# Altium footprint library 3.2inch_QD3222_18P_0.8mm.PcbLib: 1 footprints
Each footprint in its own frame and in the unit in brackets; x right, y up, seen from the top. Pads: shape width x height; smd on the part's side, far side on the other; paste and mask are expansions set on the pad; w line width, h text height; cw(c..) or ccw(c..) is an arc to the next point about the centre after c.
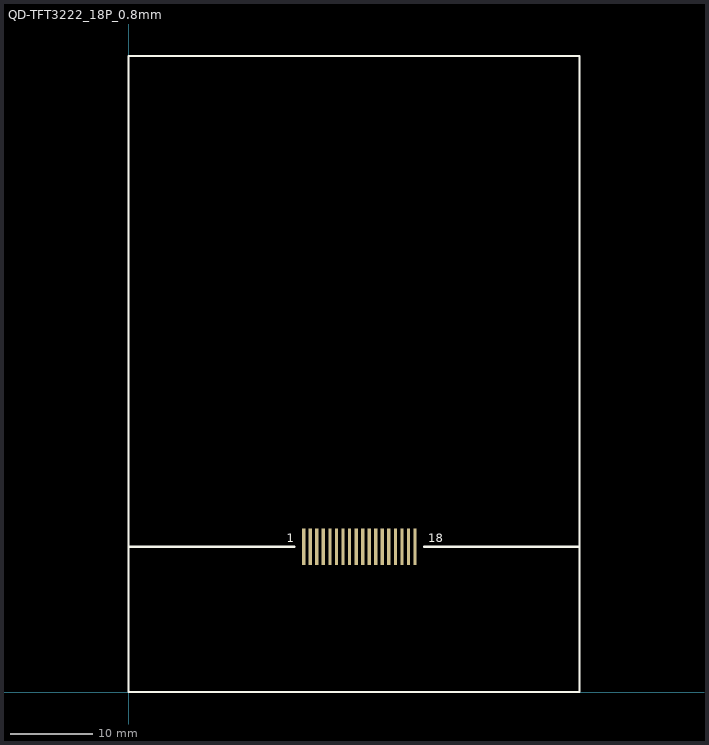
[diagram p0: the footprint, top view; thin cyan lines are the x and y axes]

## QD-TFT3222_18P_0.8mm [mm] "3.2inch TFT IPS"
pads (18):
  rect 0.4x4.5 smd: 1(21.38,17.76) 2(22.18,17.76) 3(22.98,17.76) 4(23.78,17.76) 5(24.58,17.76) 6(25.38,17.76) 7(26.18,17.76) 8(26.98,17.76) 9(27.78,17.76) 10(28.58,17.76) 11(29.38,17.76) 12(30.18,17.76) 13(30.98,17.76) 14(31.78,17.76) 15(32.58,17.76) 16(33.38,17.76) 17(34.18,17.76) 18(34.98,17.76)
Top Overlay:
  lines w0.254: 0,17.76 20.239,17.76 ; 0,77.7 0,0 55.04,0 ; 0,77.709 55.04,77.709 55.04,0.009 ; 36.068,17.76 55.04,17.76
  text "18" at 36.576,18.288 h1.02
  text "1" at 19.304,18.288 h1.02